# Altium footprint library connector_misc.PcbLib: 64 footprints (part 2 of 4)
Each footprint in its own frame and in the unit in brackets; x right, y up, seen from the top. Pads: shape width x height; smd on the part's side, far side on the other; paste and mask are expansions set on the pad; w line width, h text height; cw(c..) or ccw(c..) is an arc to the next point about the centre after c.
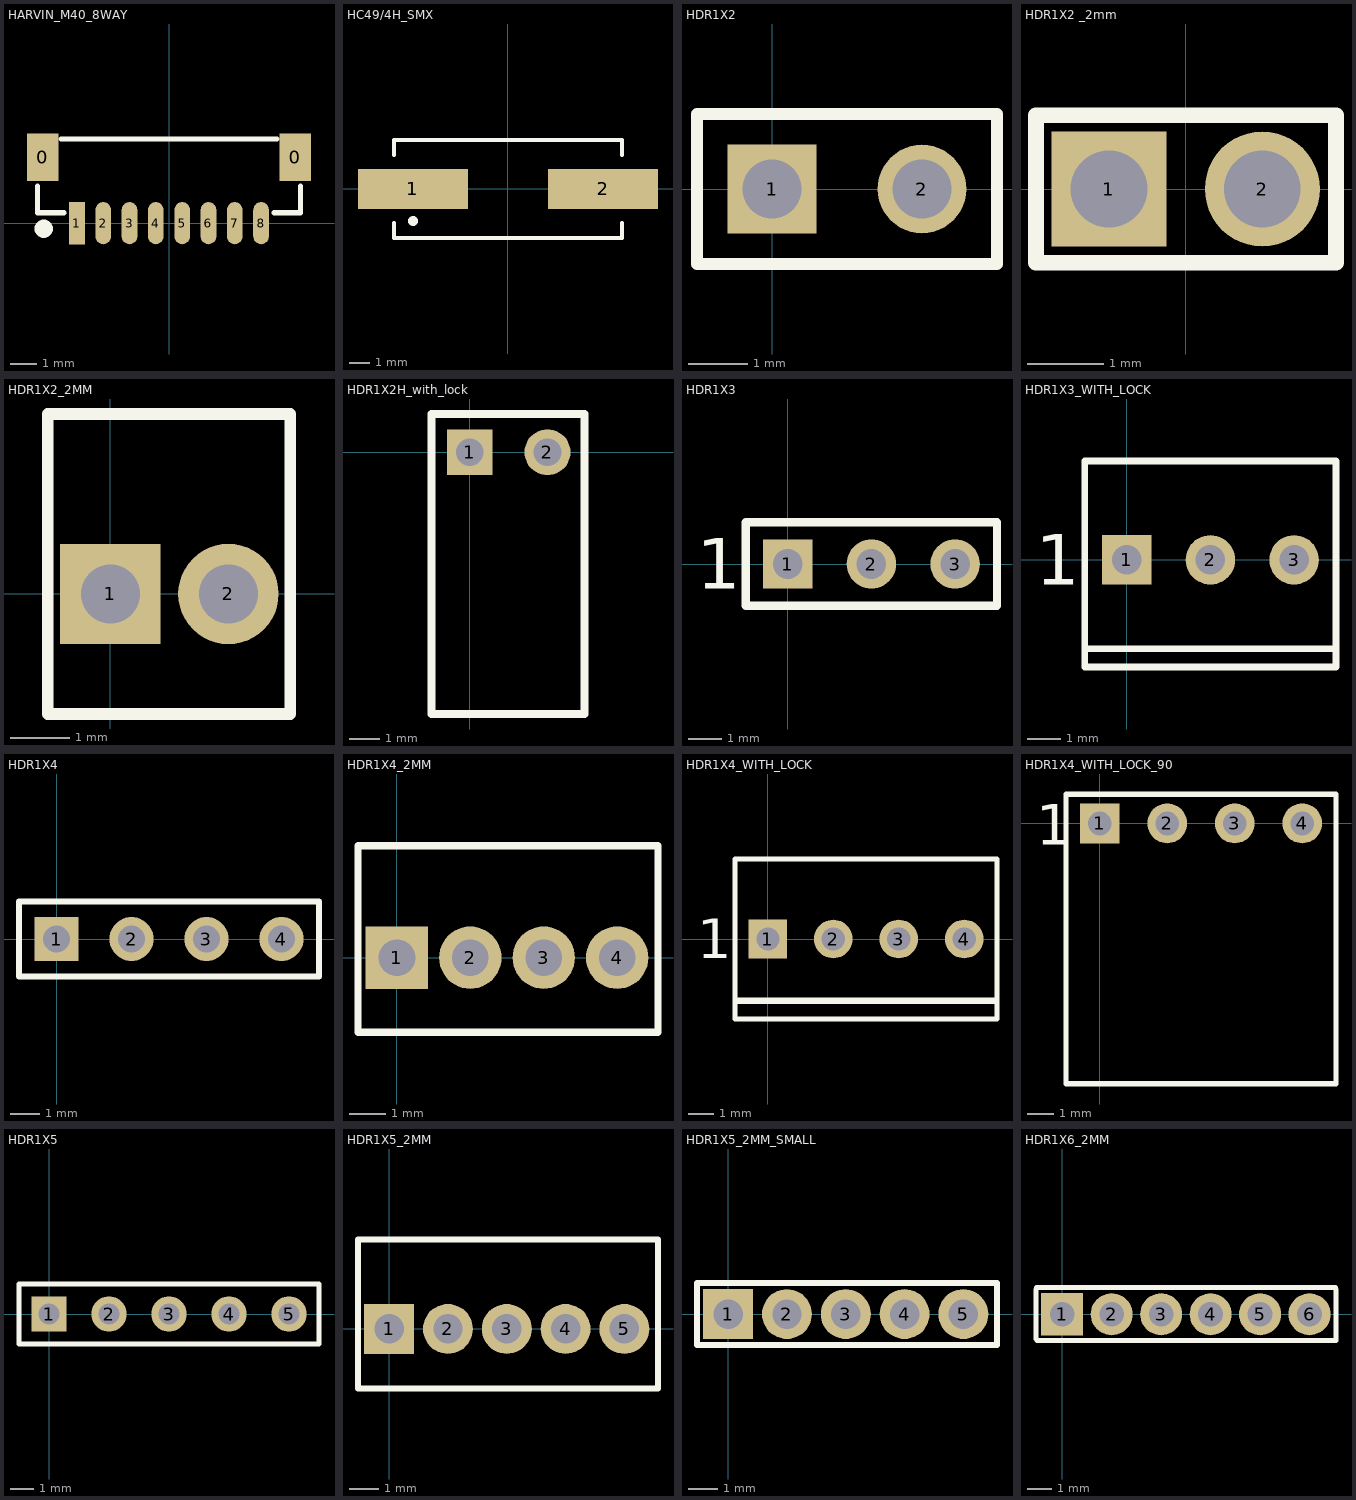
[diagram p1: the footprints below, top view; thin cyan lines are the x and y axes]

## HARVIN_M40_8WAY [mm] "8way header connector."
height 4.3
pads (10):
  rect 1.2x1.8 smd: 0(-4.8,2.5) 0(4.8,2.5)
  rect 0.6x1.6 smd: 1(-3.5,0)
  oval 0.6x1.6 smd: 2(-2.5,0) 3(-1.5,0) 4(-0.5,0) 5(0.5,0) 6(1.5,0) 7(2.5,0) 8(3.5,0)
Top Overlay:
  circle w0.35: c-4.761,-0.21 r0.171
  lines w0.2: -5,1.4 -5,0.4 -4,0.4 ; -4.1,3.2 4.1,3.2 ; 4,0.4 5,0.4 5,1.4
3D body: height 4.25, standoff -0.05, extent -5.15,-0.275 5.15,3.325

## HC49/4H_SMX [mm] "Quartz Crystal, SM; Body 13.4 (inc. leads) x 4.9 mm (LxW max)"
height 4.3
pads (2):
  rect 5.5x2 smd: 1(-4.75,0) 2(4.75,0)
Top Overlay:
  circle w0.25: c-4.75,-1.6 r0.125
  lines w0.2: -5.7,-1.7 -5.7,-2.45 5.7,-2.45 5.7,-1.7 ; -5.7,1.7 -5.7,2.45 5.7,2.45 5.7,1.7
3D body: height 2.52, standoff 0, extent -7.5,-2.25 7.5,2.25

## HDR1X2 [mm]
pads (2):
  rect 1.5x1.5 hole 1: 1(0,0)
  round 1.5 hole 1: 2(2.54,0)
Top Overlay:
  lines w0.203: -1.27,-1.27 -1.27,1.27 3.81,1.27 3.81,-1.27 -1.27,-1.27

## HDR1X2 _2mm [mm]
pads (2):
  rect 1.5x1.5 hole 1: 1(-1,0)
  round 1.5 hole 1: 2(1,0)
Top Overlay:
  lines w0.203: -1.95,-0.96 -1.95,0.96 1.96,0.96 1.96,-0.96 -1.95,-0.96

## HDR1X2_2MM [mm]
pads (2):
  rect 1.7x1.7 hole 1: 1(0,0)
  round 1.7 hole 1: 2(2,0)
Top Overlay:
  lines w0.2: -1.06,-2.032 -1.06,3.048 3.048,3.048 3.048,-2.032 -1.06,-2.032

## HDR1X2H_with_lock [mm]
pads (2):
  rect 1.5x1.5 hole 0.9: 1(0,0)
  round 1.5 hole 0.9: 2(2.54,0)
Top Overlay:
  lines w0.254: -1.25,-8.55 3.75,-8.55 3.75,1.25 -1.25,1.25 -1.25,-8.55
3D body: height 6.38, standoff -3.56, extent -1.29,-12.502 3.79,0.325

## HDR1X3 [mm] "Header, Vertical, with Friction Lock"
pads (3):
  rect 1.5x1.5 hole 0.9: 1(0,0)
  round 1.5 hole 0.9: 2(2.54,0) 3(5.08,0)
Top Overlay:
  lines w0.254: -1.27,-1.27 -1.27,1.27 6.35,1.27 6.35,-1.27 -1.27,-1.27
  text "1" at -2.75,-0.75 h1.52

## HDR1X3_WITH_LOCK [mm] "Header, Vertical, with Friction Lock"
pads (3):
  rect 1.5x1.5 hole 0.9: 1(0,0)
  round 1.5 hole 0.9: 2(2.54,0) 3(5.08,0)
Top Overlay:
  lines w0.2: -1.2,-2.7 6.3,-2.7 ; -1.27,-3.25 -1.27,3 6.35,3 6.35,-3.25 -1.27,-3.25
  text "1" at -2.75,-0.75 h1.52
3D body: height 10.58, standoff -3.64, extent -1.31,-3.25 6.31,3.1

## HDR1X4 [mm]
pads (4):
  rect 1.5x1.5 hole 0.9: 1(0,0)
  round 1.5 hole 0.9: 2(2.54,0) 3(5.08,0) 4(7.62,0)
Top Overlay:
  lines w0.2: -1.27,-1.27 8.89,-1.27 8.89,1.27 -1.27,1.27 -1.27,-1.27

## HDR1X4_2MM [mm]
pads (4):
  rect 1.7x1.7 hole 1: 1(0,0)
  round 1.7 hole 1: 2(2,0) 3(4,0) 4(6,0)
Top Overlay:
  lines w0.2: -1.06,-2.032 7.112,-2.032 7.112,3.048 -1.06,3.048 -1.06,-2.032

## HDR1X4_WITH_LOCK [mm] "Header, Vertical, with Friction Lock"
pads (4):
  rect 1.5x1.5 hole 0.9: 1(0,0)
  round 1.5 hole 0.9: 2(2.54,0) 3(5.08,0) 4(7.62,0)
Top Overlay:
  lines w0.2: -1.27,-3.1 8.89,-3.1 8.89,3.1 -1.27,3.1 -1.27,-3.1
  lines w0.254: -1.2,-2.4 8.8,-2.4
  text "1" at -2.75,-0.75 h1.52
3D body: height 10.68, standoff -3.54, extent -1.255,-3.225 8.905,3.125

## HDR1X4_WITH_LOCK_90 [mm] "Header, Horizontal with Friction Lock"
pads (4):
  rect 1.5x1.5 hole 0.9: 1(0,0)
  round 1.5 hole 0.9: 2(2.54,0) 3(5.08,0) 4(7.62,0)
Top Overlay:
  lines w0.2: -1.27,-9.8 -1.27,1.1 8.89,1.1 8.89,-9.8 -1.27,-9.8
  text "1" at -2.4,-0.8 h1.52
3D body: height 5.87, standoff -3.77, extent -1.28,-14.412 8.88,0.325

## HDR1X5 [mm]
pads (5):
  rect 1.5x1.5 hole 0.9: 1(0,0)
  round 1.5 hole 0.9: 2(2.54,0) 3(5.08,0) 4(7.62,0) 5(10.16,0)
Top Overlay:
  lines w0.2: -1.27,-1.27 11.43,-1.27 11.43,1.27 -1.27,1.27 -1.27,-1.27

## HDR1X5_2MM [mm]
pads (5):
  rect 1.7x1.7 hole 1: 1(0,0)
  round 1.7 hole 1: 2(2,0) 3(4,0) 4(6,0) 5(8,0)
Top Overlay:
  lines w0.2: -1.06,-2.032 9.144,-2.032 9.144,3.048 -1.06,3.048 -1.06,-2.032

## HDR1X5_2MM_SMALL [mm]
pads (5):
  rect 1.7x1.7 hole 1: 1(0,0)
  round 1.7 hole 1: 2(2,0) 3(4,0) 4(6,0) 5(8,0)
Top Overlay:
  lines w0.2: -1.06,-1.05 9.144,-1.05 9.144,1.055 -1.06,1.055 -1.06,-1.05

## HDR1X6_2MM [mm]
pads (6):
  rect 1.7x1.7 hole 1: 1(0,0)
  round 1.7 hole 1: 2(2,0) 3(4,0) 4(6,0) 5(8,0) 6(10,0)
Top Overlay:
  lines w0.2: -1.06,-1 -1.06,1 ; -1.05,1.09 11.05,1.09 ; -1.03,-1.07 11.07,-1.07 ; 11.07,-1 11.07,1